# Altium schematic symbol library LMH7220.SchLib: 1 symbol
Pins are listed as number, name and electrical type; pins without a type are passive.

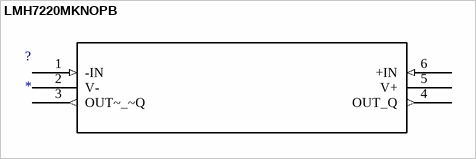
[diagram p0: symbol LMH7220MKNOPB]

## LMH7220MKNOPB
designator ?
Imported; Manufacturer_Part_Number: LMH7220MK/NOPB; base_pn: LMH7220; CompType: OpAmpIC; Vendor: National Semiconductor; Symbol: NameLMH7220MK; 3D_Library_Name: National_Amplifiers; C: Copyright (C) 2015 Accelerated Designs. All rights reserved; Type: DEV; Version: 1; Copyright: Copyright (C) 2015 Accelerated Designs. All rights reserved; RefDes: RefDes; Value: Value
footprint MK06A
pins: 1 -IN (in), 2 V-, 3 OUT~_~Q (out), 4 OUT_Q (out), 5 V+, 6 +IN (in)